# EAGLE library part M5ATOM (library M5Atom)
Design for M5Atom Series
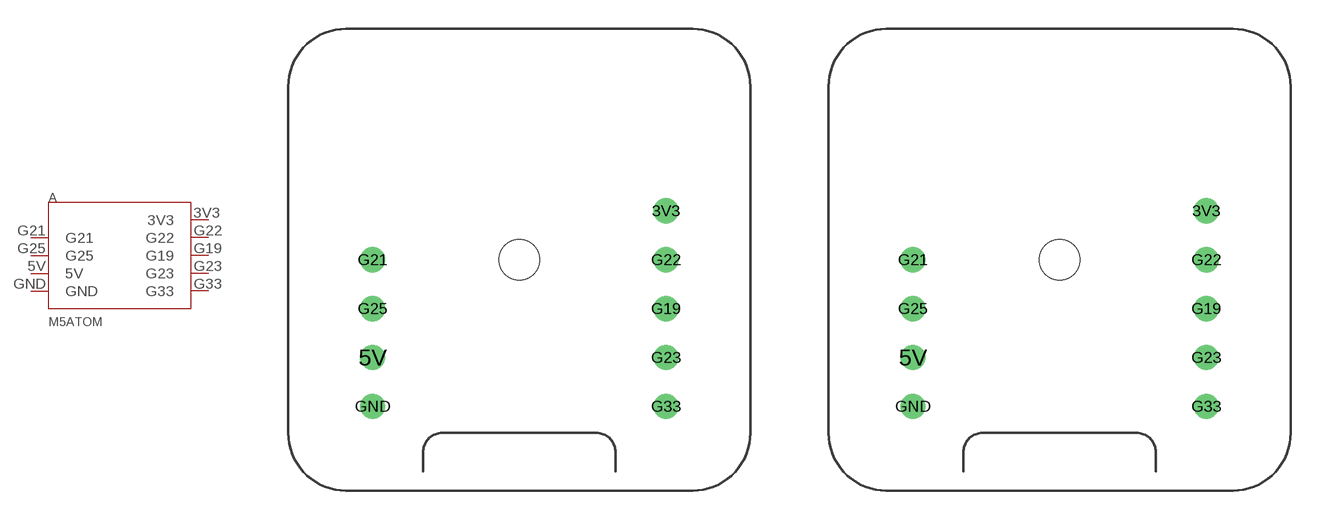
[diagram p0: symbol with the pads of M5ATOM; footprints M5ATOM, M5ATOM-W/-LABELS]

Designator prefix A

## M5ATOM  [M5ATOM]
3V3  3V3
5V  5V
G19  G19
G21  G21
G22  G22
G23  G23
G25  G25
G33  G33
GND  GND

## M5ATOM-LABELED  [M5ATOM-W/-LABELS]
Pads as for M5ATOM

## Footprint M5ATOM (pad centres in mm)
Footprint for M5Atom Matrix/Lite
drill 0.8: 3V3 7.62,2.54; 5V -7.62,-5.08; G19 7.62,-2.54; G21 -7.62,0; G22 7.62,0; G23 7.62,-5.08; G25 -7.62,-2.54; G33 7.62,-7.62; GND -7.62,-7.62
hole 2.1 at 0,0

## Footprint M5ATOM-W/-LABELS (pad centres in mm)
Footprint for M5Atom Matrix/Lite with Pin Labels
drill 0.8: 3V3 7.62,2.54; 5V -7.62,-5.08; G19 7.62,-2.54; G21 -7.62,0; G22 7.62,0; G23 7.62,-5.08; G25 -7.62,-2.54; G33 7.62,-7.62; GND -7.62,-7.62
hole 2.1 at 0,0